# EAGLE library part MINIFIT-2X5_RT (library RVschwarzenegger)
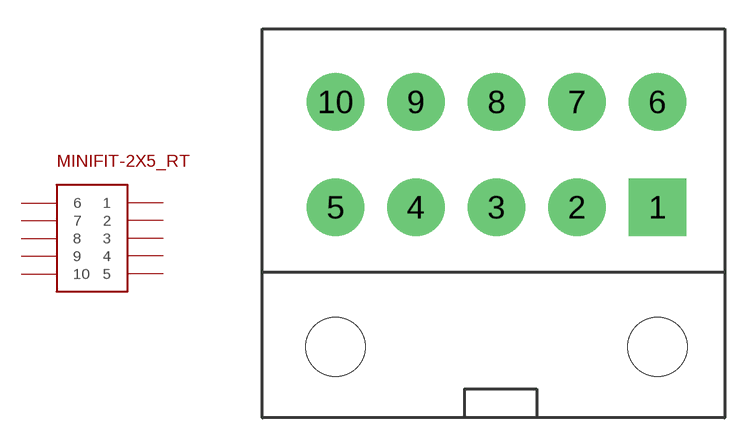
[diagram p0: symbol with the pads of MINIFIT-2X5_RT; footprint MINIFIT-2X5_RT]

Designator prefix J

## MINIFIT-2X5_RT  [MINIFIT-2X5_RT]
1  1
2  2
3  3
4  4
5  5
6  6
7  7
8  8
9  9
10  10

## Footprint MINIFIT-2X5_RT (pad centres in mm)
drill 2 pad 3 square: 1 16.8,-5.5
drill 2 pad 3: 2 12.6,-5.5; 3 8.4,-5.5; 4 4.2,-5.5; 5 0,-5.5; 6 16.8,0; 7 12.6,0; 8 8.4,0; 9 4.2,0; 10 0,0
hole 3.1 at 0,-12.8
hole 3.1 at 16.8,-12.8